# EAGLE library part 8228 (library micro-intel)
MICROCOMPUTER/PERIPHERAL DEVICE
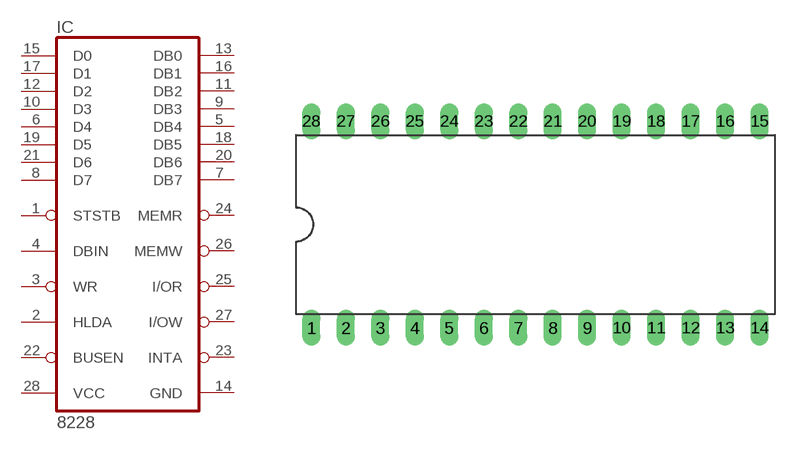
[diagram p3: symbol with the pads of DIL28-6; footprint DIL28-6]

Designator prefix IC

## 8228 (OC_FARNELL: unknown; OC_NEWARK: unknown)  [DIL28-6]
1  STSTB  in
2  HLDA  in
3  WR  in
4  DBIN  in
5  DB4
6  D4
7  DB7
8  D7
9  DB3
10  D3
11  DB2
12  D2
13  DB0
14  GND  pwr
15  D0
16  DB1
17  D1
18  DB5
19  D5
20  DB6
21  D6
22  BUSEN  in
23  INTA  out
24  MEMR  out
25  I/OR  out
26  MEMW  out
27  I/OW  out
28  VCC  pwr

## Footprint DIL28-6 (pad centres in mm)
Dual In Line Package 0.6 inch
drill 0.813 long: 1 -16.51,-7.62; 2 -13.97,-7.62; 3 -11.43,-7.62; 4 -8.89,-7.62; 5 -6.35,-7.62; 6 -3.81,-7.62; 7 -1.27,-7.62; 8 1.27,-7.62; 9 3.81,-7.62; 10 6.35,-7.62; 11 8.89,-7.62; 12 11.43,-7.62; 13 13.97,-7.62; 14 16.51,-7.62; 15 16.51,7.62; 16 13.97,7.62; 17 11.43,7.62; 18 8.89,7.62; 19 6.35,7.62; 20 3.81,7.62; 21 1.27,7.62; 22 -1.27,7.62; 23 -3.81,7.62; 24 -6.35,7.62; 25 -8.89,7.62; 26 -11.43,7.62; 27 -13.97,7.62; 28 -16.51,7.62